# Altium schematic symbol library Schlib.SchLib: 2 symbols
Pins are listed as number, name and electrical type; pins without a type are passive.

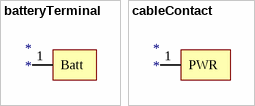
[diagram p0: symbols batteryTerminal to cableContact]

## batteryTerminal
designator *
footprint PCBComponent_1
pins: 1 Batt (power)

## cableContact
designator *
footprint CABLECONTQACT
pins: 1 PWR (power)